# Altium footprint library TCAN3413DR1.PcbLib: 1 footprints
Each footprint in its own frame and in the unit in brackets; x right, y up, seen from the top. Pads: shape width x height; smd on the part's side, far side on the other; paste and mask are expansions set on the pad; w line width, h text height; cw(c..) or ccw(c..) is an arc to the next point about the centre after c.
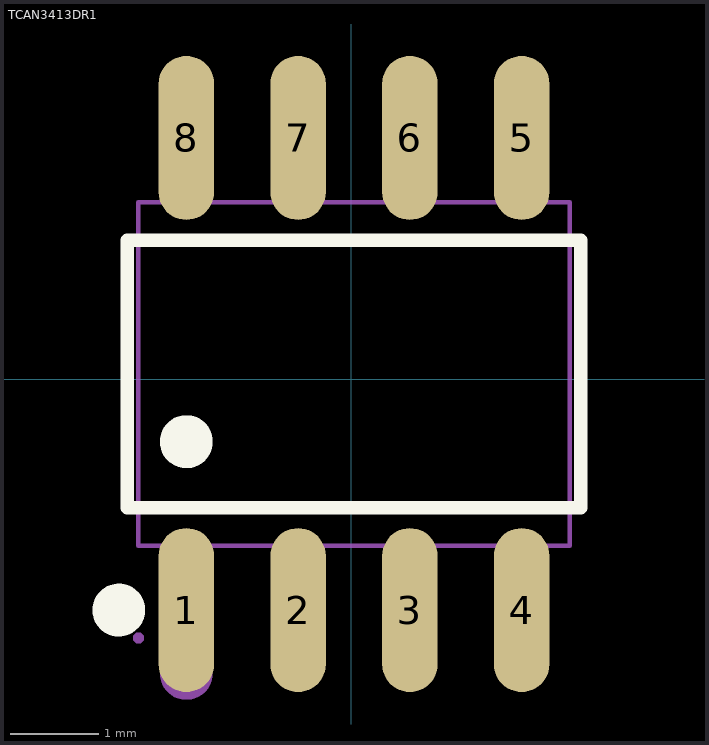
[diagram p0: the footprint, top view; thin cyan lines are the x and y axes]

## TCAN3413DR1 [mm]
pads (8):
  oval 0.63x1.865 smd: 1(-1.877,-2.624) 2(-0.607,-2.624) 3(0.663,-2.624) 4(1.933,-2.624) 5(1.933,2.741) 6(0.663,2.741) 7(-0.607,2.741) 8(-1.877,2.741)
Top Overlay:
  circle w0.3: c-2.644,-2.624 r0.15
  circle w0.3: c-1.877,-0.71 r0.15
  lines w0.152: -2.548,-1.462 -2.548,1.581 2.605,1.581 2.605,-1.462 -2.548,-1.462
Mechanical 6:
  circle w0.3: c-1.877,-3.341 r0.15
Mechanical 15:
  region: -2.362,-2.941 -2.362,-2.966 -2.397,-3.001 -2.446,-3.001 -2.482,-2.966 -2.482,-2.941 -2.482,-2.916 -2.446,-2.881 -2.397,-2.881 -2.362,-2.916 -2.362,-2.941
  region: -2.092,-2.301 -2.092,-1.881 -1.662,-1.881 -1.662,-2.301
  region: -2.092,-2.941 -2.092,-2.291 -1.662,-2.291 -1.662,-2.941
  region: -0.822,-2.301 -0.822,-1.881 -0.392,-1.881 -0.392,-2.301
  region: -0.822,-2.941 -0.822,-2.291 -0.392,-2.291 -0.392,-2.941
  region: 0.448,-2.301 0.448,-1.881 0.878,-1.881 0.878,-2.301
  region: 0.448,-2.941 0.448,-2.291 0.878,-2.291 0.878,-2.941
  region: 1.718,-2.301 1.718,-1.881 2.148,-1.881 2.148,-2.301
  region: 1.718,-2.941 1.718,-2.291 2.148,-2.291 2.148,-2.941
  region: -2.092,1.999 -2.092,2.419 -1.662,2.419 -1.662,1.999
  region: -2.092,2.409 -2.092,3.059 -1.662,3.059 -1.662,2.409
  region: -0.822,1.999 -0.822,2.419 -0.392,2.419 -0.392,1.999
  region: -0.822,2.409 -0.822,3.059 -0.392,3.059 -0.392,2.409
  region: 0.448,1.999 0.448,2.419 0.878,2.419 0.878,1.999
  region: 0.448,2.409 0.448,3.059 0.878,3.059 0.878,2.409
  region: 1.718,1.999 1.718,2.419 2.148,2.419 2.148,1.999
  region: 1.718,2.409 1.718,3.059 2.148,3.059 2.148,2.409
  lines w0.051: -2.422,-1.891 -2.422,2.009 2.478,2.009 2.478,-1.891 -2.422,-1.891
3D body "TSIC 306 SOP-8--3DModel-STEP-510211.STEP": height 1.73, standoff 0, extent -2.438,-2.972 2.489,3.023